# Altium schematic symbol library 开关.SchLib: 3 symbols
Pins are listed as number, name and electrical type; pins without a type are passive.

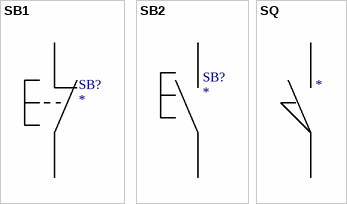
[diagram p0: symbols SB1 to SQ]

## SB1
designator SB?
pins: 1, 2

## SB2
designator SB?
pins: 1, 2

## SQ
designator ?
pins: 1, 2